# Altium footprint library Altium LCOGT PCB LIB.PCBLIB: 329 footprints (part 14 of 21)
Each footprint in its own frame and in the unit in brackets; x right, y up, seen from the top. Pads: shape width x height; smd on the part's side, far side on the other; paste and mask are expansions set on the pad; w line width, h text height; cw(c..) or ccw(c..) is an arc to the next point about the centre after c.
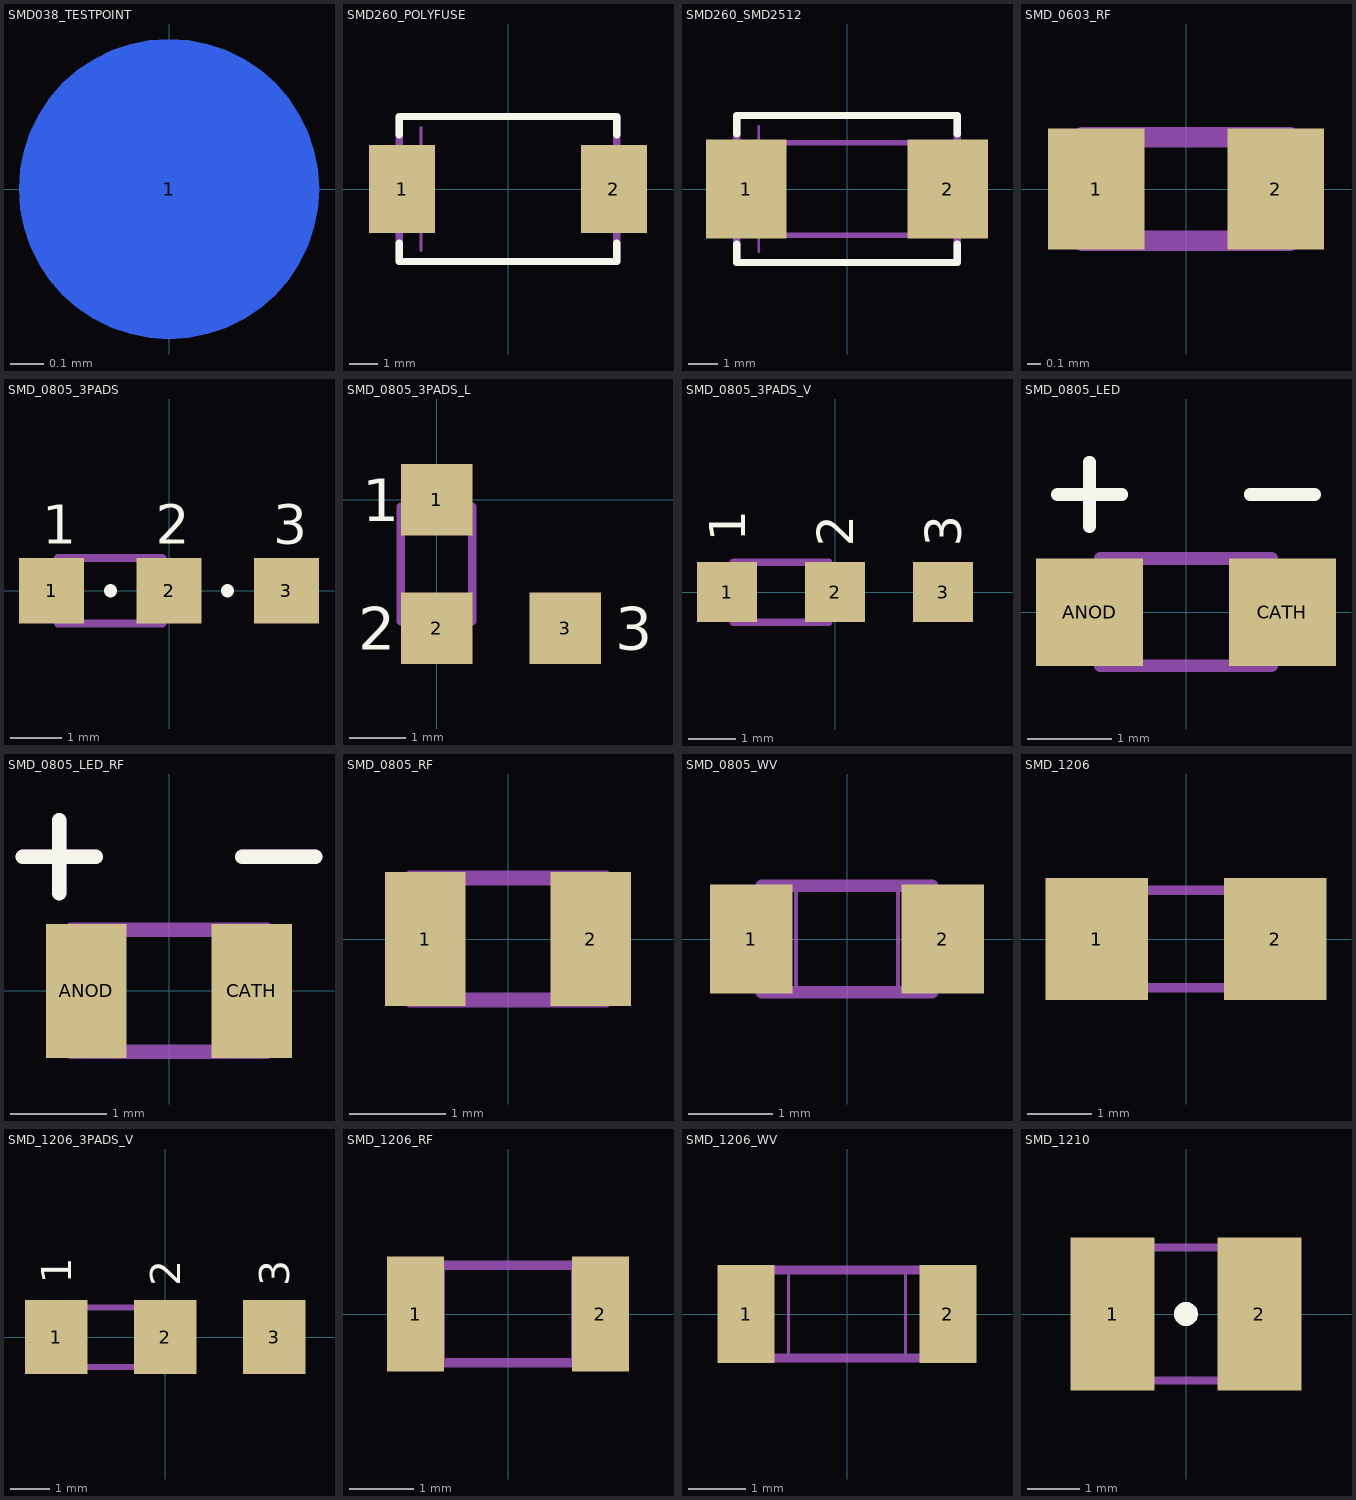
[diagram p13: the footprints below, top view; thin cyan lines are the x and y axes]

## SMD038_TESTPOINT [mil]
pads (1):
  round 35 smd far side: 1(0,0)

## SMD260_POLYFUSE [mil]
pads (2):
  rect 91x122 smd: 1(-146,0) 2(146,0)
TopOverlay:
  lines w10: -150,-75 -150,-100 150,-100 150,-75 ; -150,75 -150,100 150,100 150,75
Mechanical3:
  lines w4: -120,-85 -120,85
  lines w10: -150,-100 150,-100 150,100 -150,100 -150,-100

## SMD260_SMD2512 [mil]
pads (2):
  rect 110x134 smd: 1(-137,0) 2(137,0)
TopOverlay:
  lines w10: -150,-75 -150,-100 150,-100 150,-75 ; -150,75 -150,100 150,100 150,75
Mechanical3:
  lines w2: -101,-63 -101,63 ; 101,-63 101,63
  lines w4: -120,-85 -120,85
  lines w7: -125,-63 -125,63 125,63 125,-63 -125,-63
  lines w10: -150,-100 -150,100 150,100 150,-100 -150,-100

## SMD_0603_RF [mil]
pads (2):
  rect 28x35 smd: 1(-26,0) 2(26,0)
Mechanical3:
  lines w2: -18,-15 -18,15 ; 18,-15 18,15
  lines w6: -30,-15 -30,15 30,15 30,-15 -30,-15

## SMD_0805_3PADS [mil]
pads (3):
  rect 50x50 smd: 1(-90,0) 2(0,0) 3(90,0)
TopOverlay:
  circle w10: c-45,0 r0
  circle w10: c45,0 r0
  text "3" at 80,36 h30
  text "2" at -10,36 h30
  text "1" at -97,36 h30
Mechanical3:
  lines w2: -69,-25 -69,25 ; -21,-25 -21,25
  lines w6: -85,-25 -5,-25 -5,25 -85,25 -85,-25

## SMD_0805_3PADS_L [mil]
pads (3):
  rect 50x50 smd: 1(0,0) 2(0,-90) 3(90,-90)
TopOverlay:
  text "3" at 125,-105 h30
  text "2" at -55,-105 h30
  text "1" at -52,-15 h30
Mechanical3:
  lines w2: -25,-69 25,-69 ; -25,-21 25,-21
  lines w6: -25,-85 -25,-5 25,-5 25,-85 -25,-85

## SMD_0805_3PADS_V [mil]
pads (3):
  rect 50x50 smd: 1(-90,0) 2(0,0) 3(90,0)
TopOverlay:
  text "1" at -75,42 h30
  text "2" at 15,38 h30
  text "3" at 105,38 h30
Mechanical3:
  lines w2: -69,-25 -69,25 ; -21,-25 -21,25
  lines w6: -85,-25 -85,25 -5,25 -5,-25 -85,-25

## SMD_0805_LED [mil]
pads (2):
  rect 50x50 smd: ANOD(-45,0) CATH(45,0)
TopOverlay:
  lines w6: -60,55 -30,55 ; -45,40 -45,70 ; 30,55 60,55
Mechanical3:
  lines w2: -24,-25 -24,25 ; 24,-25 24,25
  lines w6: -60,55 -30,55 ; -45,40 -45,70 ; 30,55 60,55 ; -40,-25 40,-25 40,25 -40,25 -40,-25

## SMD_0805_LED_RF [mil]
pads (2):
  rect 33x55 smd: ANOD(-34,0) CATH(34,0)
TopOverlay:
  lines w6: -60,55 -30,55 ; -45,40 -45,70 ; 30,55 60,55
Mechanical3:
  lines w2: -24,-25 -24,25 ; 24,-25 24,25
  lines w6: -60,55 -30,55 ; -45,40 -45,70 ; 30,55 60,55 ; -40,-25 -40,25 40,25 40,-25 -40,-25

## SMD_0805_RF [mil]
pads (2):
  rect 33x55 smd: 1(-34,0) 2(34,0)
Mechanical3:
  lines w2: -24,-25 -24,25 ; 24,-25 24,25
  lines w6: -40,-25 -40,25 40,25 40,-25 -40,-25

## SMD_0805_WV [mil]
pads (2):
  rect 39x51 smd: 1(-45,0) 2(45,0)
Mechanical3:
  lines w2: -24,-25 -24,25 ; 24,-25 24,25
  lines w6: -40,-25 -40,25 40,25 40,-25 -40,-25

## SMD_1206 [mil]
pads (2):
  rect 63x75 smd: 1(-55,0) 2(55,0)
Mechanical3:
  lines w2: -40,-30 -40,30 ; 40,-30 40,30
  lines w6: -60,-30 60,-30 60,30 -60,30 -60,-30

## SMD_1206_3PADS_V [mil]
pads (3):
  rect 63x75 smd: 1(-110,0) 2(0,0) 3(110,0)
TopOverlay:
  text "3" at 125,51 h30
  text "2" at 15,51 h30
  text "1" at -95,54 h30
Mechanical3:
  lines w2: -95,-30 -95,30 ; -15,-30 -15,30
  lines w6: -115,-30 5,-30 5,30 -115,30 -115,-30

## SMD_1206_RF [mil]
pads (2):
  rect 35x71 smd: 1(-57,0) 2(57,0)
Mechanical3:
  lines w2: -40,-30 -40,30 ; 40,-30 40,30
  lines w6: -60,-30 60,-30 60,30 -60,30 -60,-30

## SMD_1206_WV [mil]
pads (2):
  rect 39x67 smd: 1(-69,0) 2(69,0)
Mechanical3:
  lines w2: -40,-30 -40,30 ; 40,-30 40,30
  lines w6: -60,-30 60,-30 60,30 -60,30 -60,-30

## SMD_1210 [mil]
pads (2):
  rect 63x115 smd: 1(-55,0) 2(55,0)
TopOverlay:
  circle w10: c0,0 r4
Mechanical3:
  lines w2: -40,-50 -40,50 ; 40,-50 40,50
  lines w6: -60,-50 60,-50 60,50 -60,50 -60,-50